# Altium schematic symbol library GPS.SchLib: 2 symbols
Pins are listed as number, name and electrical type; pins without a type are passive.

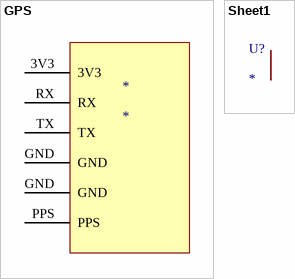
[diagram p0: symbols GPS to Sheet1]

## GPS
designator *
footprint GPS
pins: 3V3, GND, GND, PPS, RX, TX

## Sheet1
designator U?